# EAGLE library part SN74LS283D (library SN74LS283D)
IC BIN FULL 4BIT ADD CARRY
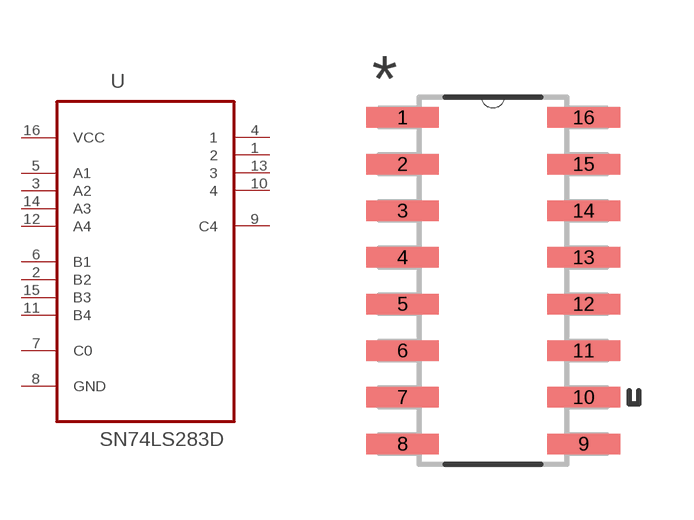
[diagram p0: symbol with the pads of SOIC127P600X175-16N; footprint SOIC127P600X175-16N]

Designator prefix U

## SN74LS283D (MPN: SN74LS283D; OC_FARNELL: 1750356; OC_NEWARK: 50R6549; PACKAGE: 16-SOIC; SUPPLIER: Texas Instruments)  [SOIC127P600X175-16N]
1  2  out
2  B2  in
3  A2  in
4  1  out
5  A1  in
6  B1  in
7  C0  in
8  GND  pas
9  C4  out
10  4  out
11  B4  in
12  A4  in
13  3  out
14  A3  in
15  B3  in
16  VCC  pwr

## Footprint SOIC127P600X175-16N (pad centres in mm)
smd 1.981 x 0.559: 1 -2.464,4.445; 2 -2.464,3.175; 3 -2.464,1.905; 4 -2.464,0.635; 5 -2.464,-0.635; 6 -2.464,-1.905; 7 -2.464,-3.175; 8 -2.464,-4.445; 9 2.464,-4.445; 10 2.464,-3.175; 11 2.464,-1.905; 12 2.464,-0.635; 13 2.464,0.635; 14 2.464,1.905; 15 2.464,3.175; 16 2.464,4.445